# Altium schematic symbol library RC0603FR0720KL.SchLib: 2 symbols
Pins are listed as number, name and electrical type; pins without a type are passive.

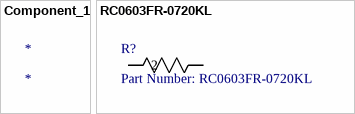
[diagram p0: symbols Component_1 to RC0603FR-0720KL]

## Component_1
designator *

## RC0603FR-0720KL
designator R?, comment Part Number: RC0603FR-0720KL
No Description Available; Vendor: Yageo; Built_By: EMA_UL_Team; Manufacturer_Part_Number: RC0603FR-0720KL; Copyright: Copyright (C) 2018 Accelerated Designs. All rights reserved; RefDes: RefDes; Type: DEV; Value: Value
footprint RC0603N
pins: 1, 2